# Altium schematic symbol library Ferrite Bead 0805 600R_2A.Schlib: 1 symbol
Pins are listed as number, name and electrical type; pins without a type are passive.

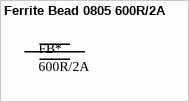
[diagram p0: symbol Ferrite Bead 0805 600R/2A]

## Ferrite Bead 0805 600R/2A
designator FB*, comment value 600R/2A  (hidden comment: Ferrite Bead)
Resistor; LCSC Part #: C1017; JLCPCB Part Type: Basic; ComponentLink1Description: LCSC - Sunlord GZ2012D601TF; ComponentLink1URL: https://lcsc.com/product-detail/Ferrite-Beads_Sunlord-GZ2012D601TF_C1017.html
footprint RESC3112X07M (Chip Resistor, 2-Leads, Body 3.05x1.25mm, IPC Low Density)
footprint CH0805R
pins: 1, 2